# EAGLE library part CON-FTSH-105-XX-X-DV (library nRF9160-Connectors)
Connector Header Surface Mount 10 position 0.050" (1.27mm) Check prices <https://pricing.snapeda.com/parts/FTSH-105-01-F-DV-K/Samtec/view-part?ref=eda>
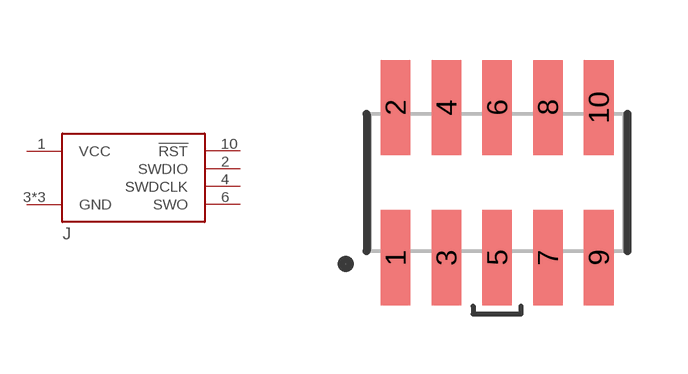
[diagram p1: symbol with the pads of SAMTEC_FTSH-105-XX-X-DV; footprint SAMTEC_FTSH-105-XX-X-DV]

Designator prefix J

## CON-FTSH-105-XX-X-DV (DESCRIPTION: Connector Header Surface Mount 10 position 0.050 (1.27mm); DIGIKEYPN: SAM8796-ND; MF: Samtec; MPN: FTSH-105-01-F-DV-K; PRICE: None; PROD_ID: CONN-15353; PURCHASE-URL: https://pricing.snapeda.com/search/part/FTSH-105-01-F-DV-K/?ref=eda)  [SAMTEC_FTSH-105-XX-X-DV]
1  VCC
2  SWDIO
3  GND
4  SWDCLK
5  GND
6  SWO
9  GND
10  !RST

## Footprint SAMTEC_FTSH-105-XX-X-DV (pad centres in mm)
translated Allegro footprint
smd 0.74 x 2.38: 1 -2.54,-1.88; 2 -2.54,1.88; 3 -1.27,-1.88; 4 -1.27,1.88; 5 0,-1.88; 6 0,1.88; 7 1.27,-1.88; 8 1.27,1.88; 9 2.54,-1.88; 10 2.54,1.88